# EAGLE library part TPS61230 (library poi)
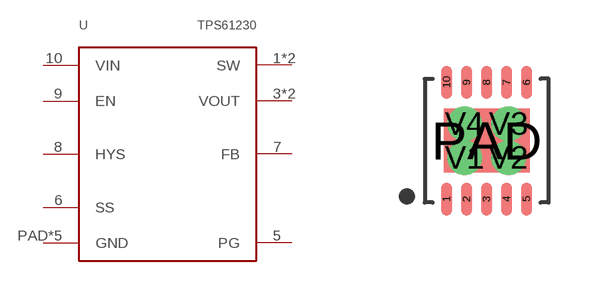
[diagram p3: symbol with the pads of VSON-10; footprint VSON-10]

Designator prefix -

## TPS61230 (MF: TEXAS INSTRUMENTS; MPN: TPS61230DRCR TPS61230DRCR; OC_FARNELL: 2425783)  [VSON-10]
1  SW  pwr
2  SW  pwr
3  VOUT  pwr
4  VOUT  pwr
5  PG  out
6  SS  in
7  FB  in
8  HYS  out
9  EN  in
10  VIN  pwr
PAD  GND  pwr
V1  GND  pwr
V2  GND  pwr
V3  GND  pwr
V4  GND  pwr

## Footprint VSON-10 (pad centres in mm)
smd 0.28 x 0.825: 1 -1,-1.462; 2 -0.5,-1.462; 3 0,-1.462; 4 0.5,-1.462; 5 1,-1.462; 6 1,1.462; 7 0.5,1.462; 8 0,1.462; 9 -0.5,1.462; 10 -1,1.462
smd 2.15 x 1.6: PAD 0,0
drill 0.35 pad 0.75: V1 -0.55,-0.425; V2 0.55,-0.425; V3 0.55,0.425; V4 -0.55,0.425